# EAGLE library part JTAG-ARM-10PIN (library Virulent_HW)
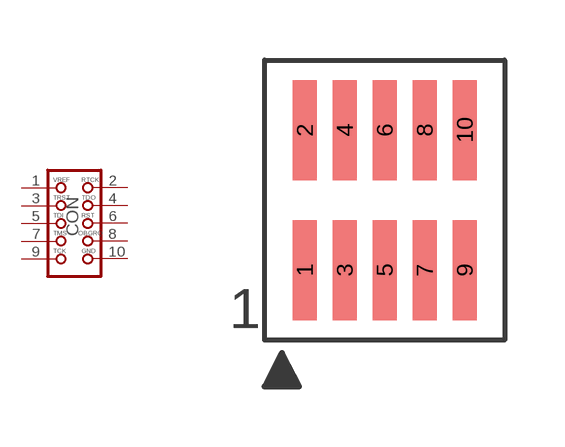
[diagram p12: symbol with the pads of JTAG-1MM-HEADER; footprint JTAG-1MM-HEADER]

Designator prefix CON

## JTAG-ARM-10PINJTAG-10PIN  [JTAG-1MM-HEADER]
1  VREF  pas
2  RTCK  pas
3  TRST  pas
4  TDO  pas
5  TDI  pas
6  RST  pas
7  TMS  pas
8  OBGRQ  pas
9  TCK  pas
10  GND  pas

## Footprint JTAG-1MM-HEADER (pad centres in mm)
smd 0.6 x 2.5: 1 -2,-1.75; 2 -2,1.75; 3 -1,-1.75; 4 -1,1.75; 5 0,-1.75; 6 0,1.75; 7 1,-1.75; 8 1,1.75; 9 2,-1.75; 10 2,1.75